# Altium schematic symbol library ACS758LCB-050U-PFF-T.SchLib: 1 symbol
Pins are listed as number, name and electrical type; pins without a type are passive.

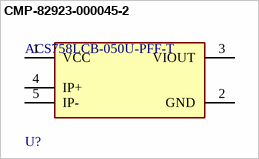
[diagram p0: symbol CMP-82923-000045-2]

## CMP-82923-000045-2
designator U?, comment ACS758LCB-050U-PFF-T
Current Sensor 50A 1 Channel Hall Effect, Open Loop Unidirectional 5-CB Formed Leads, PFF; Max Supply Current: 13.5mA; Min Supply Voltage: 3V; Number of Channels: 1; Quiescent Current: 10mA; Response Time: 4us; Accuracy: 2%; Operating Supply Voltage: 5V; Output Current: 1mA; Bandwidth: 120kHz; Max Supply Voltage: 5.5V; Sensitivity: 60mV/A; Linearity: 1%; Radiation Hardening: No; Polarity: Unidirectional; Max Operating Temperature: 150°C; Packaging: Rail/Tube; Current Sensing: 50A; Number of Pins: 5; Min Operating Temperature: -40°C; RoHS Compliant: Yes; Width: 13mm; Height: 7mm; Frequency: 120kHz; Series: -; Mount: Through Hole; REACH SVHC: No SVHC; Length: 10mm; Package Quantity: 34
footprint FP-CB-5-PFF-MFG
pins: 1 VCC (power), 2 GND (power), 3 VIOUT, 4 IP+, 5 IP-